# Altium schematic symbol library STGAP1AS.SCHLIB: 1 symbol
Pins are listed as number, name and electrical type; pins without a type are passive.

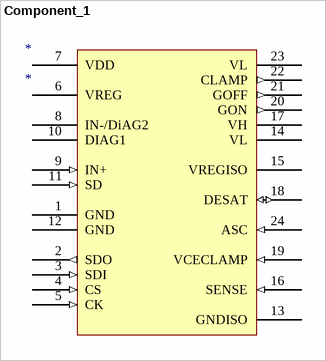
[diagram p0: symbol Component_1]

## Component_1
designator *
footprint SO24W
pins: 1 GND (power), 2 SDO (out), 3 SDI (in), 4 CS (in), 5 CK (in), 6 VREG (power), 7 VDD (power), 8 IN-/DiAG2 (oe), 9 IN+ (in), 10 DIAG1 (oe), 11 SD (in), 12 GND (power), 13 GNDISO (power), 14 VL (power), 15 VREGISO (power), 16 SENSE (in), 17 VH (power), 18 DESAT (io), 19 VCECLAMP (in), 20 GON (out), 21 GOFF (out), 22 CLAMP (out), 23 VL (power), 24 ASC (in)